# Altium footprint library SHOUHAN_TYPE-C_16PIN_2MD_(073).PcbLib: 1 footprints
Each footprint in its own frame and in the unit in brackets; x right, y up, seen from the top. Pads: shape width x height; smd on the part's side, far side on the other; paste and mask are expansions set on the pad; w line width, h text height; cw(c..) or ccw(c..) is an arc to the next point about the centre after c.
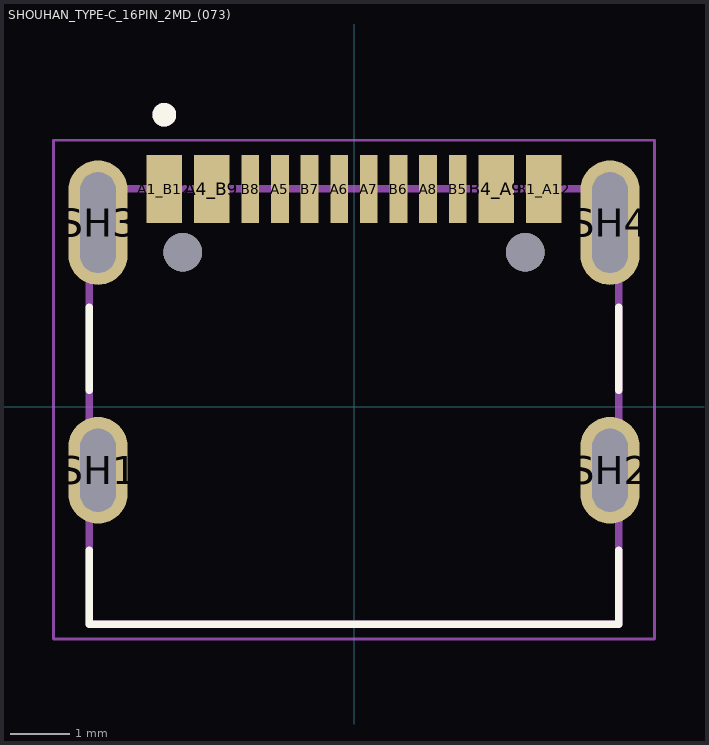
[diagram p0: the footprint, top view; thin cyan lines are the x and y axes]

## SHOUHAN_TYPE-C_16PIN_2MD_(073) [mm]
height 3.16
pads (18):
  rect 0.6x1.15 smd paste+0 mask+0: A1_B12(-3.2,3.67) A4_B9(-2.4,3.67) B1_A12(3.2,3.67) B4_A9(2.4,3.67)
  rect 0.3x1.15 smd paste+0 mask+0: A5(-1.25,3.67) A6(-0.25,3.67) A7(0.25,3.67) A8(1.25,3.67) B5(1.75,3.67) B6(0.75,3.67) B7(-0.75,3.67) B8(-1.75,3.67)
  oval 1x1.8 hole 0.6 slot 1.4 at 90 deg mask+0.102: SH1(-4.32,-1.075) SH2(4.32,-1.075)
  oval 1x2.1 hole 0.6 slot 1.7 at 90 deg mask+0.102: SH3(-4.32,3.105) SH4(4.32,3.105)
  round 0.65 hole 0.65 unplated mask+0: ""(-2.89,2.605) ""(2.89,2.605)
Top Overlay:
  circle w0.2: c-3.2,4.925 r0.1
  lines w0.127: -4.47,-2.425 -4.47,-3.675 4.47,-3.675 4.47,-2.425 ; -4.47,0.275 -4.47,1.675 ; 4.47,0.275 4.47,1.675
Top Solder:
  region: 2.75,3.055 2.05,3.055 2.05,4.295 2.75,4.295
  region: -2.05,3.055 -2.75,3.055 -2.75,4.295 -2.05,4.295
  region: 3.55,3.055 2.85,3.055 2.85,4.295 3.55,4.295
  region: -2.85,3.055 -3.55,3.055 -3.55,4.295 -2.85,4.295
  region: 0.45,3.055 0.05,3.055 0.05,4.295 0.45,4.295
  region: -0.05,3.055 -0.45,3.055 -0.45,4.295 -0.05,4.295
  region: 0.95,3.055 0.55,3.055 0.55,4.295 0.95,4.295
  region: 1.45,3.055 1.05,3.055 1.05,4.295 1.45,4.295
  region: 1.95,3.055 1.55,3.055 1.55,4.295 1.95,4.295
  region: -0.55,3.055 -0.95,3.055 -0.95,4.295 -0.55,4.295
  region: -1.05,3.055 -1.45,3.055 -1.45,4.295 -1.05,4.295
  region: -1.55,3.055 -1.95,3.055 -1.95,4.295 -1.55,4.295
Assembly Top:
  circle w0.2: c-3.2,4.925 r0.1
  lines w0.127: -4.47,-3.675 -4.47,3.675 4.47,3.675 4.47,-3.675 -4.47,-3.675
Courtyard Top:
  lines w0.05: -5.07,-3.925 5.07,-3.925 5.07,4.495 -5.07,4.495 -5.07,-3.925
3D body "step_temp.STEP": height 3.26, standoff -0.9, extent -4.47,-3.675 4.47,3.975